# Altium schematic symbol library SCH - CRYSTALS - ABRACON AOCJY2.SchLib: 1 symbol
Pins are listed as number, name and electrical type; pins without a type are passive.

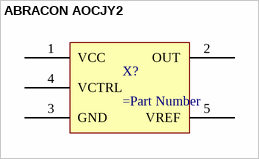
[diagram p0: symbol ABRACON AOCJY2]

## ABRACON AOCJY2
designator X?
pins: 1 VCC, 2 OUT, 3 GND, 4 VCTRL, 5 VREF